# Altium schematic symbol library IRLL2705.SchLib: 1 symbol
Pins are listed as number, name and electrical type; pins without a type are passive.

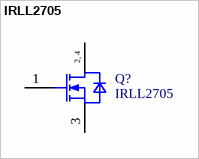
[diagram p0: symbol IRLL2705]

## IRLL2705
designator Q?
Insulated-Gate Field-Effect Transistor (IGFET), N-Channel, Enhancement, Body Diode, Pin 1 Gate, 2 Drain,  3 Source, 4 Drain, 4 Pins; Manufacturer: Infineon Technologies; Manufacturer Order Number: IRLL2705; PackageReference: PG-SOT223-3-905
pins: 1 GATE, 2 DRAIN, 3 SOURCE, 4 DRAIN
text: 2, 4